# EAGLE library part 24C* (library Misaka-IC)
Two-Wire Serial EEPROM 2K(256 x 8)/4K(512 x 8) Supply voltage: 1.8...5.5V Max rate: 1MHz(5V), 400kHz(1.8V, 2.5V, 2.7V)
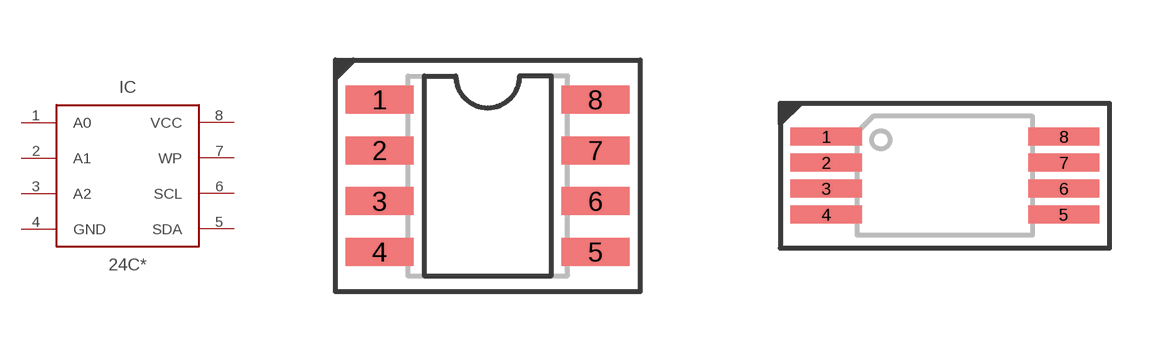
[diagram p5: symbol with the pads of SO-8; footprints SO-8, TSSOP8]

Designator prefix IC

## 24C02C-I/SN  [SO-8]
1  A0  in
2  A1  in
3  A2  in
4  GND  pwr
5  SDA
6  SCL
7  WP  in
8  VCC  pwr

## 24C04C-I/SN  [SO-8]
Pads as for SO-8

## 24C02C-I/ST  [TSSOP8]
Pads as for SO-8

## Footprint SO-8 (pad centres in mm)
Small-Outline Integrated Circuit 150 mil body
smd 1.7 x 0.7: 1 -2.7,1.905; 2 -2.7,0.635; 3 -2.7,-0.635; 4 -2.7,-1.905; 5 2.7,-1.905; 6 2.7,-0.635; 7 2.7,0.635; 8 2.7,1.905

## Footprint TSSOP8 (pad centres in mm)
smd 1.78 x 0.45: 1 -2.97,0.975; 2 -2.97,0.325; 3 -2.97,-0.325; 4 -2.97,-0.975; 5 2.97,-0.975; 6 2.97,-0.325; 7 2.97,0.325; 8 2.97,0.975